# EAGLE library part LM3526-H (library texas-instruments)
Dual Port USB Power Switch with over-current protection
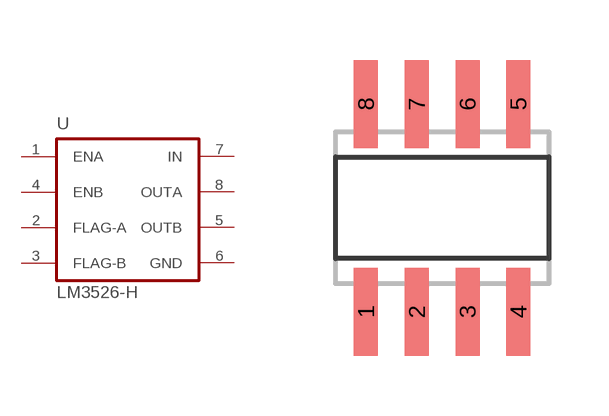
[diagram p17: symbol with the pads of SO08; footprint SO08]

Designator prefix U

## LM3526-H (P1I: o)  [SO08]
1  ENA  in
2  FLAG-A  out
3  FLAG-B  out
4  ENB  in
5  OUTB  out
6  GND  pwr
7  IN  in
8  OUTA  out

## Footprint SO08 (pad centres in mm)
SMALL OUTLINE INTEGRATED CIRCUIT body 3.9 mm/JEDEC MS-012AA
smd 0.6 x 2.2: 1 -1.905,-2.6; 2 -0.635,-2.6; 3 0.635,-2.6; 4 1.905,-2.6; 5 1.905,2.6; 6 0.635,2.6; 7 -0.635,2.6; 8 -1.905,2.6